# Altium integrated library WCAP-ASLL_rev15a.intlib: 75 symbols (part 1 of 2)
Pins are listed as number, name and electrical type; pins without a type are passive.

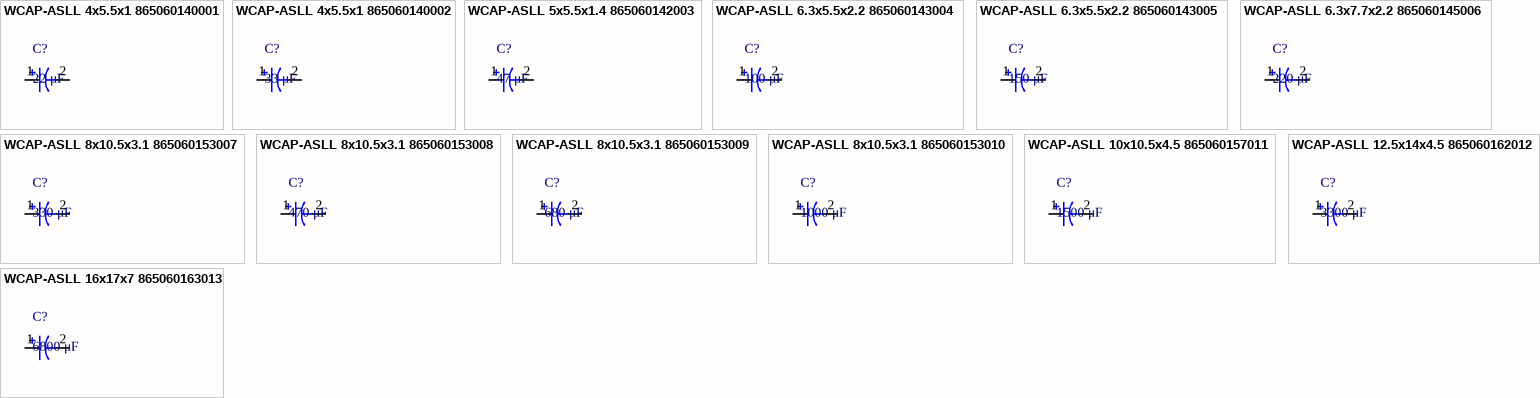
[diagram p0: symbols WCAP-ASLL 4x5.5x1 865060140001 to WCAP-ASLL 16x17x7 865060163013]

## WCAP-ASLL 4x5.5x1 865060140001
designator C?, comment 22 μF
WCAP-ASLL Aluminum Electrolytic Capacitors , 22 μF; + / - 20%; 6,3 V , 4 x 5,5; Manufacturer: Wurth Elektronik; partNo: 865060140001; E-mail: libraries@we-online.com; Characteristics: Aluminum Electrolytic Capacitor;Recommended soldering: Reflow;Operating temperature: –55 °C to +105 °C;Low impedance product series;Load life: 2000–5000 h @ +105 °C; ComponentLink1Description: Manufacturer; ComponentLink1URL: http://www.we-online.com; ComponentLink2Description: Datasheet; ComponentLink2URL: http://katalog.we-online.de/pbs/datasheet/865060140001.pdf; Created by: Karrer Zheng; Created Date: 5/13/2015; Capacitance: 22 μF; Application: Energy storage or high frequency filtering in the low voltage circuit; used as power supply filtering in general switching power supply, DC-DC converter, AC-DC converter, conversion adapter, charger, TV, VCR, DC motor circuit filter, digital audio, digital TV, digital camera, digital video camera, satellite receiver, equipment control panel and etc.
footprint WCAP-ASLL 4x5.5x1
pins: 1, 2

## WCAP-ASLL 4x5.5x1 865060140002
designator C?, comment 33 μF
WCAP-ASLL Aluminum Electrolytic Capacitors , 33 μF; + / - 20%; 6,3 V , 4 x 5,5; Manufacturer: Wurth Elektronik; partNo: 865060140002; E-mail: libraries@we-online.com; Characteristics: Aluminum Electrolytic Capacitor;Recommended soldering: Reflow;Operating temperature: –55 °C to +105 °C;Low impedance product series;Load life: 2000–5000 h @ +105 °C; ComponentLink1Description: Manufacturer; ComponentLink1URL: http://www.we-online.com; ComponentLink2Description: Datasheet; ComponentLink2URL: http://katalog.we-online.de/pbs/datasheet/865060140002.pdf; Created by: Karrer Zheng; Created Date: 5/13/2015; Capacitance: 33 μF; Application: Energy storage or high frequency filtering in the low voltage circuit; used as power supply filtering in general switching power supply, DC-DC converter, AC-DC converter, conversion adapter, charger, TV, VCR, DC motor circuit filter, digital audio, digital TV, digital camera, digital video camera, satellite receiver, equipment control panel and etc.
footprint WCAP-ASLL 4x5.5x1
pins: 1, 2

## WCAP-ASLL 5x5.5x1.4 865060142003
designator C?, comment 47 μF
WCAP-ASLL Aluminum Electrolytic Capacitors , 47 μF; + / - 20%; 6,3 V , 5 x 5,5; Manufacturer: Wurth Elektronik; partNo: 865060142003; E-mail: libraries@we-online.com; Characteristics: Aluminum Electrolytic Capacitor;Recommended soldering: Reflow;Operating temperature: –55 °C to +105 °C;Low impedance product series;Load life: 2000–5000 h @ +105 °C; ComponentLink1Description: Manufacturer; ComponentLink1URL: http://www.we-online.com; ComponentLink2Description: Datasheet; ComponentLink2URL: http://katalog.we-online.de/pbs/datasheet/865060142003.pdf; Created by: Karrer Zheng; Created Date: 5/13/2015; Capacitance: 47 μF; Application: Energy storage or high frequency filtering in the low voltage circuit; used as power supply filtering in general switching power supply, DC-DC converter, AC-DC converter, conversion adapter, charger, TV, VCR, DC motor circuit filter, digital audio, digital TV, digital camera, digital video camera, satellite receiver, equipment control panel and etc.
footprint WCAP-ASLL 5x5.5x1.4
pins: 1, 2

## WCAP-ASLL 6.3x5.5x2.2 865060143004
designator C?, comment 100 μF
WCAP-ASLL Aluminum Electrolytic Capacitors , 100 μF; + / - 20%; 6,3 V , 6,3 x 5,5; Manufacturer: Wurth Elektronik; partNo: 865060143004; E-mail: libraries@we-online.com; Characteristics: Aluminum Electrolytic Capacitor;Recommended soldering: Reflow;Operating temperature: –55 °C to +105 °C;Low impedance product series;Load life: 2000–5000 h @ +105 °C; ComponentLink1Description: Manufacturer; ComponentLink1URL: http://www.we-online.com; ComponentLink2Description: Datasheet; ComponentLink2URL: http://katalog.we-online.de/pbs/datasheet/865060143004.pdf; Created by: Karrer Zheng; Created Date: 5/13/2015; Capacitance: 100 μF; Application: Energy storage or high frequency filtering in the low voltage circuit; used as power supply filtering in general switching power supply, DC-DC converter, AC-DC converter, conversion adapter, charger, TV, VCR, DC motor circuit filter, digital audio, digital TV, digital camera, digital video camera, satellite receiver, equipment control panel and etc.
footprint WCAP-ASLL 6.3x5.5x2.2
pins: 1, 2

## WCAP-ASLL 6.3x5.5x2.2 865060143005
designator C?, comment 150 μF
WCAP-ASLL Aluminum Electrolytic Capacitors , 150 μF; + / - 20%; 6,3 V , 6,3 x 5,5; Manufacturer: Wurth Elektronik; partNo: 865060143005; E-mail: libraries@we-online.com; Characteristics: Aluminum Electrolytic Capacitor;Recommended soldering: Reflow;Operating temperature: –55 °C to +105 °C;Low impedance product series;Load life: 2000–5000 h @ +105 °C; ComponentLink1Description: Manufacturer; ComponentLink1URL: http://www.we-online.com; ComponentLink2Description: Datasheet; ComponentLink2URL: http://katalog.we-online.de/pbs/datasheet/865060143005.pdf; Created by: Karrer Zheng; Created Date: 5/13/2015; Capacitance: 150 μF; Application: Energy storage or high frequency filtering in the low voltage circuit; used as power supply filtering in general switching power supply, DC-DC converter, AC-DC converter, conversion adapter, charger, TV, VCR, DC motor circuit filter, digital audio, digital TV, digital camera, digital video camera, satellite receiver, equipment control panel and etc.
footprint WCAP-ASLL 6.3x5.5x2.2
pins: 1, 2

## WCAP-ASLL 6.3x7.7x2.2 865060145006
designator C?, comment 220 μF
WCAP-ASLL Aluminum Electrolytic Capacitors , 220 μF; + / - 20%; 6,3 V , 6,3 x 7,7; Manufacturer: Wurth Elektronik; partNo: 865060145006; E-mail: libraries@we-online.com; Characteristics: Aluminum Electrolytic Capacitor;Recommended soldering: Reflow;Operating temperature: –55 °C to +105 °C;Low impedance product series;Load life: 2000–5000 h @ +105 °C; ComponentLink1Description: Manufacturer; ComponentLink1URL: http://www.we-online.com; ComponentLink2Description: Datasheet; ComponentLink2URL: http://katalog.we-online.de/pbs/datasheet/865060145006.pdf; Created by: Karrer Zheng; Created Date: 5/13/2015; Capacitance: 220 μF; Application: Energy storage or high frequency filtering in the low voltage circuit; used as power supply filtering in general switching power supply, DC-DC converter, AC-DC converter, conversion adapter, charger, TV, VCR, DC motor circuit filter, digital audio, digital TV, digital camera, digital video camera, satellite receiver, equipment control panel and etc.
footprint WCAP-ASLL 6.3x7.7x2.2
pins: 1, 2

## WCAP-ASLL 8x10.5x3.1 865060153007
designator C?, comment 330 μF
WCAP-ASLL Aluminum Electrolytic Capacitors , 330 μF; + / - 20%; 6,3 V , 8 x 10,5; Manufacturer: Wurth Elektronik; partNo: 865060153007; E-mail: libraries@we-online.com; Characteristics: Aluminum Electrolytic Capacitor;Recommended soldering: Reflow;Operating temperature: –55 °C to +105 °C;Low impedance product series;Load life: 2000–5000 h @ +105 °C; ComponentLink1Description: Manufacturer; ComponentLink1URL: http://www.we-online.com; ComponentLink2Description: Datasheet; ComponentLink2URL: http://katalog.we-online.de/pbs/datasheet/865060153007.pdf; Created by: Karrer Zheng; Created Date: 5/13/2015; Capacitance: 330 μF; Application: Energy storage or high frequency filtering in the low voltage circuit; used as power supply filtering in general switching power supply, DC-DC converter, AC-DC converter, conversion adapter, charger, TV, VCR, DC motor circuit filter, digital audio, digital TV, digital camera, digital video camera, satellite receiver, equipment control panel and etc.
footprint WCAP-ASLL 8x10.5x3.1
pins: 1, 2

## WCAP-ASLL 8x10.5x3.1 865060153008
designator C?, comment 470 μF
WCAP-ASLL Aluminum Electrolytic Capacitors , 470 μF; + / - 20%; 6,3 V , 8 x 10,5; Manufacturer: Wurth Elektronik; partNo: 865060153008; E-mail: libraries@we-online.com; Characteristics: Aluminum Electrolytic Capacitor;Recommended soldering: Reflow;Operating temperature: –55 °C to +105 °C;Low impedance product series;Load life: 2000–5000 h @ +105 °C; ComponentLink1Description: Manufacturer; ComponentLink1URL: http://www.we-online.com; ComponentLink2Description: Datasheet; ComponentLink2URL: http://katalog.we-online.de/pbs/datasheet/865060153008.pdf; Created by: Karrer Zheng; Created Date: 5/13/2015; Capacitance: 470 μF; Application: Energy storage or high frequency filtering in the low voltage circuit; used as power supply filtering in general switching power supply, DC-DC converter, AC-DC converter, conversion adapter, charger, TV, VCR, DC motor circuit filter, digital audio, digital TV, digital camera, digital video camera, satellite receiver, equipment control panel and etc.
footprint WCAP-ASLL 8x10.5x3.1
pins: 1, 2

## WCAP-ASLL 8x10.5x3.1 865060153009
designator C?, comment 680 μF
WCAP-ASLL Aluminum Electrolytic Capacitors , 680 μF; + / - 20%; 6,3 V , 8 x 10,5; Manufacturer: Wurth Elektronik; partNo: 865060153009; E-mail: libraries@we-online.com; Characteristics: Aluminum Electrolytic Capacitor;Recommended soldering: Reflow;Operating temperature: –55 °C to +105 °C;Low impedance product series;Load life: 2000–5000 h @ +105 °C; ComponentLink1Description: Manufacturer; ComponentLink1URL: http://www.we-online.com; ComponentLink2Description: Datasheet; ComponentLink2URL: http://katalog.we-online.de/pbs/datasheet/865060153009.pdf; Created by: Karrer Zheng; Created Date: 5/13/2015; Capacitance: 680 μF; Application: Energy storage or high frequency filtering in the low voltage circuit; used as power supply filtering in general switching power supply, DC-DC converter, AC-DC converter, conversion adapter, charger, TV, VCR, DC motor circuit filter, digital audio, digital TV, digital camera, digital video camera, satellite receiver, equipment control panel and etc.
footprint WCAP-ASLL 8x10.5x3.1
pins: 1, 2

## WCAP-ASLL 8x10.5x3.1 865060153010
designator C?, comment 1000 μF
WCAP-ASLL Aluminum Electrolytic Capacitors , 1000 μF; + / - 20%; 6,3 V , 8 x 10,5; Manufacturer: Wurth Elektronik; partNo: 865060153010; E-mail: libraries@we-online.com; Characteristics: Aluminum Electrolytic Capacitor;Recommended soldering: Reflow;Operating temperature: –55 °C to +105 °C;Low impedance product series;Load life: 2000–5000 h @ +105 °C; ComponentLink1Description: Manufacturer; ComponentLink1URL: http://www.we-online.com; ComponentLink2Description: Datasheet; ComponentLink2URL: http://katalog.we-online.de/pbs/datasheet/865060153010.pdf; Created by: Karrer Zheng; Created Date: 5/13/2015; Capacitance: 1000 μF; Application: Energy storage or high frequency filtering in the low voltage circuit; used as power supply filtering in general switching power supply, DC-DC converter, AC-DC converter, conversion adapter, charger, TV, VCR, DC motor circuit filter, digital audio, digital TV, digital camera, digital video camera, satellite receiver, equipment control panel and etc.
footprint WCAP-ASLL 8x10.5x3.1
pins: 1, 2

## WCAP-ASLL 10x10.5x4.5 865060157011
designator C?, comment 1500 μF
WCAP-ASLL Aluminum Electrolytic Capacitors , 1500 μF; + / - 20%; 6,3 V , 10 x 10,5; Manufacturer: Wurth Elektronik; partNo: 865060157011; E-mail: libraries@we-online.com; Characteristics: Aluminum Electrolytic Capacitor;Recommended soldering: Reflow;Operating temperature: –55 °C to +105 °C;Low impedance product series;Load life: 2000–5000 h @ +105 °C; ComponentLink1Description: Manufacturer; ComponentLink1URL: http://www.we-online.com; ComponentLink2Description: Datasheet; ComponentLink2URL: http://katalog.we-online.de/pbs/datasheet/865060157011.pdf; Created by: Karrer Zheng; Created Date: 5/13/2015; Capacitance: 1500 μF; Application: Energy storage or high frequency filtering in the low voltage circuit; used as power supply filtering in general switching power supply, DC-DC converter, AC-DC converter, conversion adapter, charger, TV, VCR, DC motor circuit filter, digital audio, digital TV, digital camera, digital video camera, satellite receiver, equipment control panel and etc.
footprint WCAP-ASLL 10x10.5x4.5
pins: 1, 2

## WCAP-ASLL 12.5x14x4.5 865060162012
designator C?, comment 3300 μF
WCAP-ASLL Aluminum Electrolytic Capacitors , 3300 μF; + / - 20%; 6,3 V , 12,5 x 14; Manufacturer: Wurth Elektronik; partNo: 865060162012; E-mail: libraries@we-online.com; Characteristics: Aluminum Electrolytic Capacitor;Recommended soldering: Reflow;Operating temperature: –55 °C to +105 °C;Low impedance product series;Load life: 2000–5000 h @ +105 °C; ComponentLink1Description: Manufacturer; ComponentLink1URL: http://www.we-online.com; ComponentLink2Description: Datasheet; ComponentLink2URL: http://katalog.we-online.de/pbs/datasheet/865060162012.pdf; Created by: Karrer Zheng; Created Date: 5/13/2015; Capacitance: 3300 μF; Application: Energy storage or high frequency filtering in the low voltage circuit; used as power supply filtering in general switching power supply, DC-DC converter, AC-DC converter, conversion adapter, charger, TV, VCR, DC motor circuit filter, digital audio, digital TV, digital camera, digital video camera, satellite receiver, equipment control panel and etc.
footprint WCAP-ASLL 12.5x14x4.5
pins: 1, 2

## WCAP-ASLL 16x17x7 865060163013
designator C?, comment 6800 μF
WCAP-ASLL Aluminum Electrolytic Capacitors , 6800 μF; + / - 20%; 6,3 V , 16 x 17; Manufacturer: Wurth Elektronik; partNo: 865060163013; E-mail: libraries@we-online.com; Characteristics: Aluminum Electrolytic Capacitor;Recommended soldering: Reflow;Operating temperature: –55 °C to +105 °C;Low impedance product series;Load life: 2000–5000 h @ +105 °C; ComponentLink1Description: Manufacturer; ComponentLink1URL: http://www.we-online.com; ComponentLink2Description: Datasheet; ComponentLink2URL: http://katalog.we-online.de/pbs/datasheet/865060163013.pdf; Created by: Karrer Zheng; Created Date: 5/13/2015; Capacitance: 6800 μF; Application: Energy storage or high frequency filtering in the low voltage circuit; used as power supply filtering in general switching power supply, DC-DC converter, AC-DC converter, conversion adapter, charger, TV, VCR, DC motor circuit filter, digital audio, digital TV, digital camera, digital video camera, satellite receiver, equipment control panel and etc.
footprint WCAP-ASLL 16x17x7
pins: 1, 2


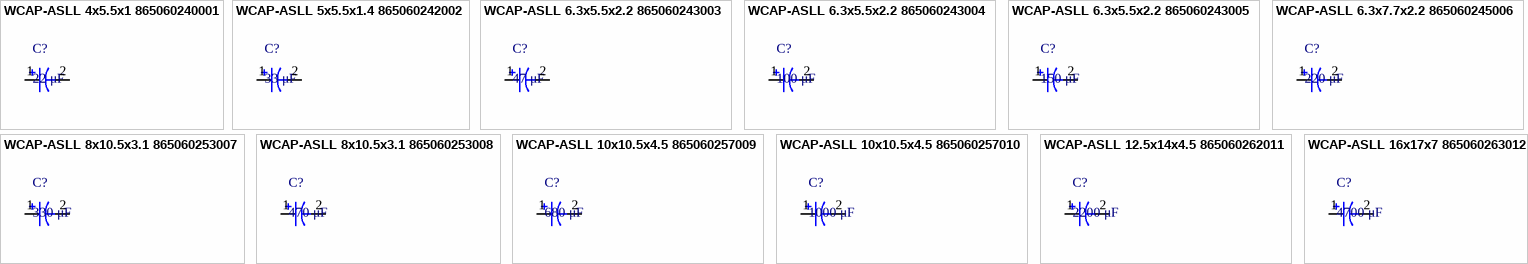
[diagram p1: symbols WCAP-ASLL 4x5.5x1 865060240001 to WCAP-ASLL 16x17x7 865060263012]

## WCAP-ASLL 4x5.5x1 865060240001
designator C?, comment 22 μF
WCAP-ASLL Aluminum Electrolytic Capacitors , 22 μF; + / - 20%; 10 V , 4 x 5,5; Manufacturer: Wurth Elektronik; partNo: 865060240001; E-mail: libraries@we-online.com; Characteristics: Aluminum Electrolytic Capacitor;Recommended soldering: Reflow;Operating temperature: –55 °C to +105 °C;Low impedance product series;Load life: 2000–5000 h @ +105 °C; ComponentLink1Description: Manufacturer; ComponentLink1URL: http://www.we-online.com; ComponentLink2Description: Datasheet; ComponentLink2URL: http://katalog.we-online.de/pbs/datasheet/865060240001.pdf; Created by: Karrer Zheng; Created Date: 5/13/2015; Capacitance: 22 μF; Application: Energy storage or high frequency filtering in the low voltage circuit; used as power supply filtering in general switching power supply, DC-DC converter, AC-DC converter, conversion adapter, charger, TV, VCR, DC motor circuit filter, digital audio, digital TV, digital camera, digital video camera, satellite receiver, equipment control panel and etc.
footprint WCAP-ASLL 4x5.5x1
pins: 1, 2

## WCAP-ASLL 5x5.5x1.4 865060242002
designator C?, comment 33 μF
WCAP-ASLL Aluminum Electrolytic Capacitors , 33 μF; + / - 20%; 10 V , 5 x 5,5; Manufacturer: Wurth Elektronik; partNo: 865060242002; E-mail: libraries@we-online.com; Characteristics: Aluminum Electrolytic Capacitor;Recommended soldering: Reflow;Operating temperature: –55 °C to +105 °C;Low impedance product series;Load life: 2000–5000 h @ +105 °C; ComponentLink1Description: Manufacturer; ComponentLink1URL: http://www.we-online.com; ComponentLink2Description: Datasheet; ComponentLink2URL: http://katalog.we-online.de/pbs/datasheet/865060242002.pdf; Created by: Karrer Zheng; Created Date: 5/13/2015; Capacitance: 33 μF; Application: Energy storage or high frequency filtering in the low voltage circuit; used as power supply filtering in general switching power supply, DC-DC converter, AC-DC converter, conversion adapter, charger, TV, VCR, DC motor circuit filter, digital audio, digital TV, digital camera, digital video camera, satellite receiver, equipment control panel and etc.
footprint WCAP-ASLL 5x5.5x1.4
pins: 1, 2

## WCAP-ASLL 6.3x5.5x2.2 865060243003
designator C?, comment 47 μF
WCAP-ASLL Aluminum Electrolytic Capacitors , 47 μF; + / - 20%; 10 V , 6,3 x 5,5; Manufacturer: Wurth Elektronik; partNo: 865060243003; E-mail: libraries@we-online.com; Characteristics: Aluminum Electrolytic Capacitor;Recommended soldering: Reflow;Operating temperature: –55 °C to +105 °C;Low impedance product series;Load life: 2000–5000 h @ +105 °C; ComponentLink1Description: Manufacturer; ComponentLink1URL: http://www.we-online.com; ComponentLink2Description: Datasheet; ComponentLink2URL: http://katalog.we-online.de/pbs/datasheet/865060243003.pdf; Created by: Karrer Zheng; Created Date: 5/13/2015; Capacitance: 47 μF; Application: Energy storage or high frequency filtering in the low voltage circuit; used as power supply filtering in general switching power supply, DC-DC converter, AC-DC converter, conversion adapter, charger, TV, VCR, DC motor circuit filter, digital audio, digital TV, digital camera, digital video camera, satellite receiver, equipment control panel and etc.
footprint WCAP-ASLL 6.3x5.5x2.2
pins: 1, 2

## WCAP-ASLL 6.3x5.5x2.2 865060243004
designator C?, comment 100 μF
WCAP-ASLL Aluminum Electrolytic Capacitors , 100 μF; + / - 20%; 10 V , 6,3 x 5,5; Manufacturer: Wurth Elektronik; partNo: 865060243004; E-mail: libraries@we-online.com; Characteristics: Aluminum Electrolytic Capacitor;Recommended soldering: Reflow;Operating temperature: –55 °C to +105 °C;Low impedance product series;Load life: 2000–5000 h @ +105 °C; ComponentLink1Description: Manufacturer; ComponentLink1URL: http://www.we-online.com; ComponentLink2Description: Datasheet; ComponentLink2URL: http://katalog.we-online.de/pbs/datasheet/865060243004.pdf; Created by: Karrer Zheng; Created Date: 5/13/2015; Capacitance: 100 μF; Application: Energy storage or high frequency filtering in the low voltage circuit; used as power supply filtering in general switching power supply, DC-DC converter, AC-DC converter, conversion adapter, charger, TV, VCR, DC motor circuit filter, digital audio, digital TV, digital camera, digital video camera, satellite receiver, equipment control panel and etc.
footprint WCAP-ASLL 6.3x5.5x2.2
pins: 1, 2

## WCAP-ASLL 6.3x5.5x2.2 865060243005
designator C?, comment 150 μF
WCAP-ASLL Aluminum Electrolytic Capacitors , 150 μF; + / - 20%; 10 V , 6,3 x 5,5; Manufacturer: Wurth Elektronik; partNo: 865060243005; E-mail: libraries@we-online.com; Characteristics: Aluminum Electrolytic Capacitor;Recommended soldering: Reflow;Operating temperature: –55 °C to +105 °C;Low impedance product series;Load life: 2000–5000 h @ +105 °C; ComponentLink1Description: Manufacturer; ComponentLink1URL: http://www.we-online.com; ComponentLink2Description: Datasheet; ComponentLink2URL: http://katalog.we-online.de/pbs/datasheet/865060243005.pdf; Created by: Karrer Zheng; Created Date: 5/13/2015; Capacitance: 150 μF; Application: Energy storage or high frequency filtering in the low voltage circuit; used as power supply filtering in general switching power supply, DC-DC converter, AC-DC converter, conversion adapter, charger, TV, VCR, DC motor circuit filter, digital audio, digital TV, digital camera, digital video camera, satellite receiver, equipment control panel and etc.
footprint WCAP-ASLL 6.3x5.5x2.2
pins: 1, 2

## WCAP-ASLL 6.3x7.7x2.2 865060245006
designator C?, comment 220 μF
WCAP-ASLL Aluminum Electrolytic Capacitors , 220 μF; + / - 20%; 10 V , 6,3 x 7,7; Manufacturer: Wurth Elektronik; partNo: 865060245006; E-mail: libraries@we-online.com; Characteristics: Aluminum Electrolytic Capacitor;Recommended soldering: Reflow;Operating temperature: –55 °C to +105 °C;Low impedance product series;Load life: 2000–5000 h @ +105 °C; ComponentLink1Description: Manufacturer; ComponentLink1URL: http://www.we-online.com; ComponentLink2Description: Datasheet; ComponentLink2URL: http://katalog.we-online.de/pbs/datasheet/865060245006.pdf; Created by: Karrer Zheng; Created Date: 5/13/2015; Capacitance: 220 μF; Application: Energy storage or high frequency filtering in the low voltage circuit; used as power supply filtering in general switching power supply, DC-DC converter, AC-DC converter, conversion adapter, charger, TV, VCR, DC motor circuit filter, digital audio, digital TV, digital camera, digital video camera, satellite receiver, equipment control panel and etc.
footprint WCAP-ASLL 6.3x7.7x2.2
pins: 1, 2

## WCAP-ASLL 8x10.5x3.1 865060253007
designator C?, comment 330 μF
WCAP-ASLL Aluminum Electrolytic Capacitors , 330 μF; + / - 20%; 10 V , 8 x 10,5; Manufacturer: Wurth Elektronik; partNo: 865060253007; E-mail: libraries@we-online.com; Characteristics: Aluminum Electrolytic Capacitor;Recommended soldering: Reflow;Operating temperature: –55 °C to +105 °C;Low impedance product series;Load life: 2000–5000 h @ +105 °C; ComponentLink1Description: Manufacturer; ComponentLink1URL: http://www.we-online.com; ComponentLink2Description: Datasheet; ComponentLink2URL: http://katalog.we-online.de/pbs/datasheet/865060253007.pdf; Created by: Karrer Zheng; Created Date: 5/13/2015; Capacitance: 330 μF; Application: Energy storage or high frequency filtering in the low voltage circuit; used as power supply filtering in general switching power supply, DC-DC converter, AC-DC converter, conversion adapter, charger, TV, VCR, DC motor circuit filter, digital audio, digital TV, digital camera, digital video camera, satellite receiver, equipment control panel and etc.
footprint WCAP-ASLL 8x10.5x3.1
pins: 1, 2

## WCAP-ASLL 8x10.5x3.1 865060253008
designator C?, comment 470 μF
WCAP-ASLL Aluminum Electrolytic Capacitors , 470 μF; + / - 20%; 10 V , 8 x 10,5; Manufacturer: Wurth Elektronik; partNo: 865060253008; E-mail: libraries@we-online.com; Characteristics: Aluminum Electrolytic Capacitor;Recommended soldering: Reflow;Operating temperature: –55 °C to +105 °C;Low impedance product series;Load life: 2000–5000 h @ +105 °C; ComponentLink1Description: Manufacturer; ComponentLink1URL: http://www.we-online.com; ComponentLink2Description: Datasheet; ComponentLink2URL: http://katalog.we-online.de/pbs/datasheet/865060253008.pdf; Created by: Karrer Zheng; Created Date: 5/13/2015; Capacitance: 470 μF; Application: Energy storage or high frequency filtering in the low voltage circuit; used as power supply filtering in general switching power supply, DC-DC converter, AC-DC converter, conversion adapter, charger, TV, VCR, DC motor circuit filter, digital audio, digital TV, digital camera, digital video camera, satellite receiver, equipment control panel and etc.
footprint WCAP-ASLL 8x10.5x3.1
pins: 1, 2

## WCAP-ASLL 10x10.5x4.5 865060257009
designator C?, comment 680 μF
WCAP-ASLL Aluminum Electrolytic Capacitors , 680 μF; + / - 20%; 10 V , 10 x 10,5; Manufacturer: Wurth Elektronik; partNo: 865060257009; E-mail: libraries@we-online.com; Characteristics: Aluminum Electrolytic Capacitor;Recommended soldering: Reflow;Operating temperature: –55 °C to +105 °C;Low impedance product series;Load life: 2000–5000 h @ +105 °C; ComponentLink1Description: Manufacturer; ComponentLink1URL: http://www.we-online.com; ComponentLink2Description: Datasheet; ComponentLink2URL: http://katalog.we-online.de/pbs/datasheet/865060257009.pdf; Created by: Karrer Zheng; Created Date: 5/13/2015; Capacitance: 680 μF; Application: Energy storage or high frequency filtering in the low voltage circuit; used as power supply filtering in general switching power supply, DC-DC converter, AC-DC converter, conversion adapter, charger, TV, VCR, DC motor circuit filter, digital audio, digital TV, digital camera, digital video camera, satellite receiver, equipment control panel and etc.
footprint WCAP-ASLL 10x10.5x4.5
pins: 1, 2

## WCAP-ASLL 10x10.5x4.5 865060257010
designator C?, comment 1000 μF
WCAP-ASLL Aluminum Electrolytic Capacitors , 1000 μF; + / - 20%; 10 V , 10 x 10,5; Manufacturer: Wurth Elektronik; partNo: 865060257010; E-mail: libraries@we-online.com; Characteristics: Aluminum Electrolytic Capacitor;Recommended soldering: Reflow;Operating temperature: –55 °C to +105 °C;Low impedance product series;Load life: 2000–5000 h @ +105 °C; ComponentLink1Description: Manufacturer; ComponentLink1URL: http://www.we-online.com; ComponentLink2Description: Datasheet; ComponentLink2URL: http://katalog.we-online.de/pbs/datasheet/865060257010.pdf; Created by: Karrer Zheng; Created Date: 5/13/2015; Capacitance: 1000 μF; Application: Energy storage or high frequency filtering in the low voltage circuit; used as power supply filtering in general switching power supply, DC-DC converter, AC-DC converter, conversion adapter, charger, TV, VCR, DC motor circuit filter, digital audio, digital TV, digital camera, digital video camera, satellite receiver, equipment control panel and etc.
footprint WCAP-ASLL 10x10.5x4.5
pins: 1, 2

## WCAP-ASLL 12.5x14x4.5 865060262011
designator C?, comment 2200 μF
WCAP-ASLL Aluminum Electrolytic Capacitors , 2200 μF; + / - 20%; 10 V , 12,5 x 14; Manufacturer: Wurth Elektronik; partNo: 865060262011; E-mail: libraries@we-online.com; Characteristics: Aluminum Electrolytic Capacitor;Recommended soldering: Reflow;Operating temperature: –55 °C to +105 °C;Low impedance product series;Load life: 2000–5000 h @ +105 °C; ComponentLink1Description: Manufacturer; ComponentLink1URL: http://www.we-online.com; ComponentLink2Description: Datasheet; ComponentLink2URL: http://katalog.we-online.de/pbs/datasheet/865060262011.pdf; Created by: Karrer Zheng; Created Date: 5/13/2015; Capacitance: 2200 μF; Application: Energy storage or high frequency filtering in the low voltage circuit; used as power supply filtering in general switching power supply, DC-DC converter, AC-DC converter, conversion adapter, charger, TV, VCR, DC motor circuit filter, digital audio, digital TV, digital camera, digital video camera, satellite receiver, equipment control panel and etc.
footprint WCAP-ASLL 12.5x14x4.5
pins: 1, 2

## WCAP-ASLL 16x17x7 865060263012
designator C?, comment 4700 μF
WCAP-ASLL Aluminum Electrolytic Capacitors , 4700 μF; + / - 20%; 10 V , 16 x 17; Manufacturer: Wurth Elektronik; partNo: 865060263012; E-mail: libraries@we-online.com; Characteristics: Aluminum Electrolytic Capacitor;Recommended soldering: Reflow;Operating temperature: –55 °C to +105 °C;Low impedance product series;Load life: 2000–5000 h @ +105 °C; ComponentLink1Description: Manufacturer; ComponentLink1URL: http://www.we-online.com; ComponentLink2Description: Datasheet; ComponentLink2URL: http://katalog.we-online.de/pbs/datasheet/865060263012.pdf; Created by: Karrer Zheng; Created Date: 5/13/2015; Capacitance: 4700 μF; Application: Energy storage or high frequency filtering in the low voltage circuit; used as power supply filtering in general switching power supply, DC-DC converter, AC-DC converter, conversion adapter, charger, TV, VCR, DC motor circuit filter, digital audio, digital TV, digital camera, digital video camera, satellite receiver, equipment control panel and etc.
footprint WCAP-ASLL 16x17x7
pins: 1, 2


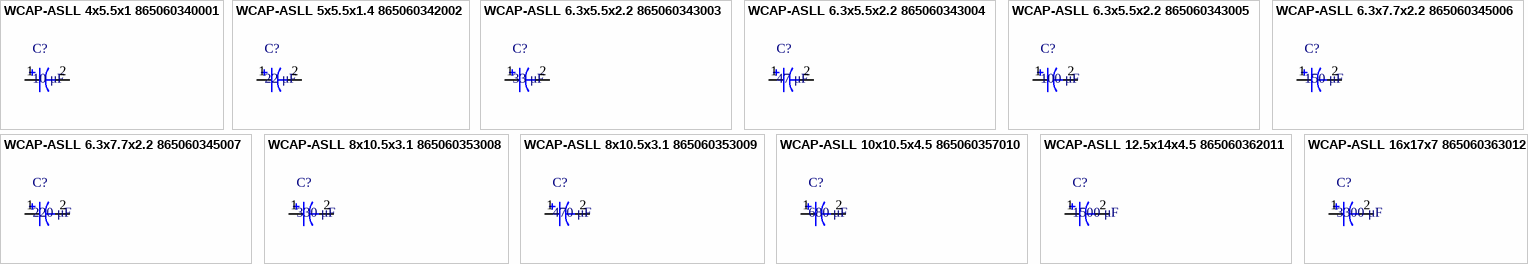
[diagram p2: symbols WCAP-ASLL 4x5.5x1 865060340001 to WCAP-ASLL 16x17x7 865060363012]

## WCAP-ASLL 4x5.5x1 865060340001
designator C?, comment 10 μF
WCAP-ASLL Aluminum Electrolytic Capacitors , 10 μF; + / - 20%; 16 V , 4 x 5,5; Manufacturer: Wurth Elektronik; partNo: 865060340001; E-mail: libraries@we-online.com; Characteristics: Aluminum Electrolytic Capacitor;Recommended soldering: Reflow;Operating temperature: –55 °C to +105 °C;Low impedance product series;Load life: 2000–5000 h @ +105 °C; ComponentLink1Description: Manufacturer; ComponentLink1URL: http://www.we-online.com; ComponentLink2Description: Datasheet; ComponentLink2URL: http://katalog.we-online.de/pbs/datasheet/865060340001.pdf; Created by: Karrer Zheng; Created Date: 5/13/2015; Capacitance: 10 μF; Application: Energy storage or high frequency filtering in the low voltage circuit; used as power supply filtering in general switching power supply, DC-DC converter, AC-DC converter, conversion adapter, charger, TV, VCR, DC motor circuit filter, digital audio, digital TV, digital camera, digital video camera, satellite receiver, equipment control panel and etc.
footprint WCAP-ASLL 4x5.5x1
pins: 1, 2

## WCAP-ASLL 5x5.5x1.4 865060342002
designator C?, comment 22 μF
WCAP-ASLL Aluminum Electrolytic Capacitors , 22 μF; + / - 20%; 16 V , 5 x 5,5; Manufacturer: Wurth Elektronik; partNo: 865060342002; E-mail: libraries@we-online.com; Characteristics: Aluminum Electrolytic Capacitor;Recommended soldering: Reflow;Operating temperature: –55 °C to +105 °C;Low impedance product series;Load life: 2000–5000 h @ +105 °C; ComponentLink1Description: Manufacturer; ComponentLink1URL: http://www.we-online.com; ComponentLink2Description: Datasheet; ComponentLink2URL: http://katalog.we-online.de/pbs/datasheet/865060342002.pdf; Created by: Karrer Zheng; Created Date: 5/13/2015; Capacitance: 22 μF; Application: Energy storage or high frequency filtering in the low voltage circuit; used as power supply filtering in general switching power supply, DC-DC converter, AC-DC converter, conversion adapter, charger, TV, VCR, DC motor circuit filter, digital audio, digital TV, digital camera, digital video camera, satellite receiver, equipment control panel and etc.
footprint WCAP-ASLL 5x5.5x1.4
pins: 1, 2

## WCAP-ASLL 6.3x5.5x2.2 865060343003
designator C?, comment 33 μF
WCAP-ASLL Aluminum Electrolytic Capacitors , 33 μF; + / - 20%; 16 V , 6,3 x 5,5; Manufacturer: Wurth Elektronik; partNo: 865060343003; E-mail: libraries@we-online.com; Characteristics: Aluminum Electrolytic Capacitor;Recommended soldering: Reflow;Operating temperature: –55 °C to +105 °C;Low impedance product series;Load life: 2000–5000 h @ +105 °C; ComponentLink1Description: Manufacturer; ComponentLink1URL: http://www.we-online.com; ComponentLink2Description: Datasheet; ComponentLink2URL: http://katalog.we-online.de/pbs/datasheet/865060343003.pdf; Created by: Karrer Zheng; Created Date: 5/13/2015; Capacitance: 33 μF; Application: Energy storage or high frequency filtering in the low voltage circuit; used as power supply filtering in general switching power supply, DC-DC converter, AC-DC converter, conversion adapter, charger, TV, VCR, DC motor circuit filter, digital audio, digital TV, digital camera, digital video camera, satellite receiver, equipment control panel and etc.
footprint WCAP-ASLL 6.3x5.5x2.2
pins: 1, 2

## WCAP-ASLL 6.3x5.5x2.2 865060343004
designator C?, comment 47 μF
WCAP-ASLL Aluminum Electrolytic Capacitors , 47 μF; + / - 20%; 16 V , 6,3 x 5,5; Manufacturer: Wurth Elektronik; partNo: 865060343004; E-mail: libraries@we-online.com; Characteristics: Aluminum Electrolytic Capacitor;Recommended soldering: Reflow;Operating temperature: –55 °C to +105 °C;Low impedance product series;Load life: 2000–5000 h @ +105 °C; ComponentLink1Description: Manufacturer; ComponentLink1URL: http://www.we-online.com; ComponentLink2Description: Datasheet; ComponentLink2URL: http://katalog.we-online.de/pbs/datasheet/865060343004.pdf; Created by: Karrer Zheng; Created Date: 5/13/2015; Capacitance: 47 μF; Application: Energy storage or high frequency filtering in the low voltage circuit; used as power supply filtering in general switching power supply, DC-DC converter, AC-DC converter, conversion adapter, charger, TV, VCR, DC motor circuit filter, digital audio, digital TV, digital camera, digital video camera, satellite receiver, equipment control panel and etc.
footprint WCAP-ASLL 6.3x5.5x2.2
pins: 1, 2

## WCAP-ASLL 6.3x5.5x2.2 865060343005
designator C?, comment 100 μF
WCAP-ASLL Aluminum Electrolytic Capacitors , 100 μF; + / - 20%; 16 V , 6,3 x 5,5; Manufacturer: Wurth Elektronik; partNo: 865060343005; E-mail: libraries@we-online.com; Characteristics: Aluminum Electrolytic Capacitor;Recommended soldering: Reflow;Operating temperature: –55 °C to +105 °C;Low impedance product series;Load life: 2000–5000 h @ +105 °C; ComponentLink1Description: Manufacturer; ComponentLink1URL: http://www.we-online.com; ComponentLink2Description: Datasheet; ComponentLink2URL: http://katalog.we-online.de/pbs/datasheet/865060343005.pdf; Created by: Karrer Zheng; Created Date: 5/13/2015; Capacitance: 100 μF; Application: Energy storage or high frequency filtering in the low voltage circuit; used as power supply filtering in general switching power supply, DC-DC converter, AC-DC converter, conversion adapter, charger, TV, VCR, DC motor circuit filter, digital audio, digital TV, digital camera, digital video camera, satellite receiver, equipment control panel and etc.
footprint WCAP-ASLL 6.3x5.5x2.2
pins: 1, 2

## WCAP-ASLL 6.3x7.7x2.2 865060345006
designator C?, comment 150 μF
WCAP-ASLL Aluminum Electrolytic Capacitors , 150 μF; + / - 20%; 16 V , 6,3 x 7,7; Manufacturer: Wurth Elektronik; partNo: 865060345006; E-mail: libraries@we-online.com; Characteristics: Aluminum Electrolytic Capacitor;Recommended soldering: Reflow;Operating temperature: –55 °C to +105 °C;Low impedance product series;Load life: 2000–5000 h @ +105 °C; ComponentLink1Description: Manufacturer; ComponentLink1URL: http://www.we-online.com; ComponentLink2Description: Datasheet; ComponentLink2URL: http://katalog.we-online.de/pbs/datasheet/865060345006.pdf; Created by: Karrer Zheng; Created Date: 5/13/2015; Capacitance: 150 μF; Application: Energy storage or high frequency filtering in the low voltage circuit; used as power supply filtering in general switching power supply, DC-DC converter, AC-DC converter, conversion adapter, charger, TV, VCR, DC motor circuit filter, digital audio, digital TV, digital camera, digital video camera, satellite receiver, equipment control panel and etc.
footprint WCAP-ASLL 6.3x7.7x2.2
pins: 1, 2

## WCAP-ASLL 6.3x7.7x2.2 865060345007
designator C?, comment 220 μF
WCAP-ASLL Aluminum Electrolytic Capacitors , 220 μF; + / - 20%; 16 V , 6,3 x 7,7; Manufacturer: Wurth Elektronik; partNo: 865060345007; E-mail: libraries@we-online.com; Characteristics: Aluminum Electrolytic Capacitor;Recommended soldering: Reflow;Operating temperature: –55 °C to +105 °C;Low impedance product series;Load life: 2000–5000 h @ +105 °C; ComponentLink1Description: Manufacturer; ComponentLink1URL: http://www.we-online.com; ComponentLink2Description: Datasheet; ComponentLink2URL: http://katalog.we-online.de/pbs/datasheet/865060345007.pdf; Created by: Karrer Zheng; Created Date: 5/13/2015; Capacitance: 220 μF; Application: Energy storage or high frequency filtering in the low voltage circuit; used as power supply filtering in general switching power supply, DC-DC converter, AC-DC converter, conversion adapter, charger, TV, VCR, DC motor circuit filter, digital audio, digital TV, digital camera, digital video camera, satellite receiver, equipment control panel and etc.
footprint WCAP-ASLL 6.3x7.7x2.2
pins: 1, 2

## WCAP-ASLL 8x10.5x3.1 865060353008
designator C?, comment 330 μF
WCAP-ASLL Aluminum Electrolytic Capacitors , 330 μF; + / - 20%; 16 V , 8 x 10,5; Manufacturer: Wurth Elektronik; partNo: 865060353008; E-mail: libraries@we-online.com; Characteristics: Aluminum Electrolytic Capacitor;Recommended soldering: Reflow;Operating temperature: –55 °C to +105 °C;Low impedance product series;Load life: 2000–5000 h @ +105 °C; ComponentLink1Description: Manufacturer; ComponentLink1URL: http://www.we-online.com; ComponentLink2Description: Datasheet; ComponentLink2URL: http://katalog.we-online.de/pbs/datasheet/865060353008.pdf; Created by: Karrer Zheng; Created Date: 5/13/2015; Capacitance: 330 μF; Application: Energy storage or high frequency filtering in the low voltage circuit; used as power supply filtering in general switching power supply, DC-DC converter, AC-DC converter, conversion adapter, charger, TV, VCR, DC motor circuit filter, digital audio, digital TV, digital camera, digital video camera, satellite receiver, equipment control panel and etc.
footprint WCAP-ASLL 8x10.5x3.1
pins: 1, 2

## WCAP-ASLL 8x10.5x3.1 865060353009
designator C?, comment 470 μF
WCAP-ASLL Aluminum Electrolytic Capacitors , 470 μF; + / - 20%; 16 V , 8 x 10,5; Manufacturer: Wurth Elektronik; partNo: 865060353009; E-mail: libraries@we-online.com; Characteristics: Aluminum Electrolytic Capacitor;Recommended soldering: Reflow;Operating temperature: –55 °C to +105 °C;Low impedance product series;Load life: 2000–5000 h @ +105 °C; ComponentLink1Description: Manufacturer; ComponentLink1URL: http://www.we-online.com; ComponentLink2Description: Datasheet; ComponentLink2URL: http://katalog.we-online.de/pbs/datasheet/865060353009.pdf; Created by: Karrer Zheng; Created Date: 5/13/2015; Capacitance: 470 μF; Application: Energy storage or high frequency filtering in the low voltage circuit; used as power supply filtering in general switching power supply, DC-DC converter, AC-DC converter, conversion adapter, charger, TV, VCR, DC motor circuit filter, digital audio, digital TV, digital camera, digital video camera, satellite receiver, equipment control panel and etc.
footprint WCAP-ASLL 8x10.5x3.1
pins: 1, 2

## WCAP-ASLL 10x10.5x4.5 865060357010
designator C?, comment 680 μF
WCAP-ASLL Aluminum Electrolytic Capacitors , 680 μF; + / - 20%; 16 V , 10 x 10,5; Manufacturer: Wurth Elektronik; partNo: 865060357010; E-mail: libraries@we-online.com; Characteristics: Aluminum Electrolytic Capacitor;Recommended soldering: Reflow;Operating temperature: –55 °C to +105 °C;Low impedance product series;Load life: 2000–5000 h @ +105 °C; ComponentLink1Description: Manufacturer; ComponentLink1URL: http://www.we-online.com; ComponentLink2Description: Datasheet; ComponentLink2URL: http://katalog.we-online.de/pbs/datasheet/865060357010.pdf; Created by: Karrer Zheng; Created Date: 5/13/2015; Capacitance: 680 μF; Application: Energy storage or high frequency filtering in the low voltage circuit; used as power supply filtering in general switching power supply, DC-DC converter, AC-DC converter, conversion adapter, charger, TV, VCR, DC motor circuit filter, digital audio, digital TV, digital camera, digital video camera, satellite receiver, equipment control panel and etc.
footprint WCAP-ASLL 10x10.5x4.5
pins: 1, 2

## WCAP-ASLL 12.5x14x4.5 865060362011
designator C?, comment 1500 μF
WCAP-ASLL Aluminum Electrolytic Capacitors , 1500 μF; + / - 20%; 16 V , 12,5 x 14; Manufacturer: Wurth Elektronik; partNo: 865060362011; E-mail: libraries@we-online.com; Characteristics: Aluminum Electrolytic Capacitor;Recommended soldering: Reflow;Operating temperature: –55 °C to +105 °C;Low impedance product series;Load life: 2000–5000 h @ +105 °C; ComponentLink1Description: Manufacturer; ComponentLink1URL: http://www.we-online.com; ComponentLink2Description: Datasheet; ComponentLink2URL: http://katalog.we-online.de/pbs/datasheet/865060362011.pdf; Created by: Karrer Zheng; Created Date: 5/13/2015; Capacitance: 1500 μF; Application: Energy storage or high frequency filtering in the low voltage circuit; used as power supply filtering in general switching power supply, DC-DC converter, AC-DC converter, conversion adapter, charger, TV, VCR, DC motor circuit filter, digital audio, digital TV, digital camera, digital video camera, satellite receiver, equipment control panel and etc.
footprint WCAP-ASLL 12.5x14x4.5
pins: 1, 2

## WCAP-ASLL 16x17x7 865060363012
designator C?, comment 3300 μF
WCAP-ASLL Aluminum Electrolytic Capacitors , 3300 μF; + / - 20%; 16 V , 16 x 17; Manufacturer: Wurth Elektronik; partNo: 865060363012; E-mail: libraries@we-online.com; Characteristics: Aluminum Electrolytic Capacitor;Recommended soldering: Reflow;Operating temperature: –55 °C to +105 °C;Low impedance product series;Load life: 2000–5000 h @ +105 °C; ComponentLink1Description: Manufacturer; ComponentLink1URL: http://www.we-online.com; ComponentLink2Description: Datasheet; ComponentLink2URL: http://katalog.we-online.de/pbs/datasheet/865060363012.pdf; Created by: Karrer Zheng; Created Date: 5/13/2015; Capacitance: 3300 μF; Application: Energy storage or high frequency filtering in the low voltage circuit; used as power supply filtering in general switching power supply, DC-DC converter, AC-DC converter, conversion adapter, charger, TV, VCR, DC motor circuit filter, digital audio, digital TV, digital camera, digital video camera, satellite receiver, equipment control panel and etc.
footprint WCAP-ASLL 16x17x7
pins: 1, 2


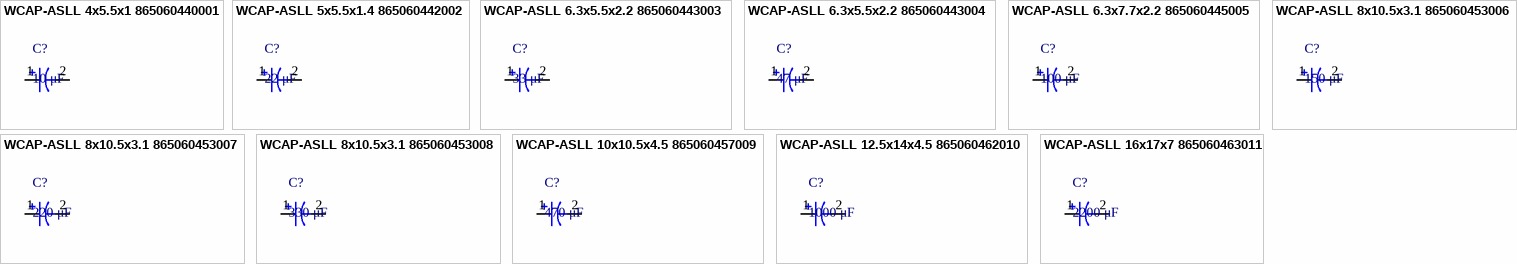
[diagram p3: symbols WCAP-ASLL 4x5.5x1 865060440001 to WCAP-ASLL 16x17x7 865060463011]

## WCAP-ASLL 4x5.5x1 865060440001
designator C?, comment 10 μF
WCAP-ASLL Aluminum Electrolytic Capacitors , 10 μF; + / - 20%; 25 V , 4 x 5,5; Manufacturer: Wurth Elektronik; partNo: 865060440001; E-mail: libraries@we-online.com; Characteristics: Aluminum Electrolytic Capacitor;Recommended soldering: Reflow;Operating temperature: –55 °C to +105 °C;Low impedance product series;Load life: 2000–5000 h @ +105 °C; ComponentLink1Description: Manufacturer; ComponentLink1URL: http://www.we-online.com; ComponentLink2Description: Datasheet; ComponentLink2URL: http://katalog.we-online.de/pbs/datasheet/865060440001.pdf; Created by: Karrer Zheng; Created Date: 5/13/2015; Capacitance: 10 μF; Application: Energy storage or high frequency filtering in the low voltage circuit; used as power supply filtering in general switching power supply, DC-DC converter, AC-DC converter, conversion adapter, charger, TV, VCR, DC motor circuit filter, digital audio, digital TV, digital camera, digital video camera, satellite receiver, equipment control panel and etc.
footprint WCAP-ASLL 4x5.5x1
pins: 1, 2

## WCAP-ASLL 5x5.5x1.4 865060442002
designator C?, comment 22 μF
WCAP-ASLL Aluminum Electrolytic Capacitors , 22 μF; + / - 20%; 25 V , 5 x 5,5; Manufacturer: Wurth Elektronik; partNo: 865060442002; E-mail: libraries@we-online.com; Characteristics: Aluminum Electrolytic Capacitor;Recommended soldering: Reflow;Operating temperature: –55 °C to +105 °C;Low impedance product series;Load life: 2000–5000 h @ +105 °C; ComponentLink1Description: Manufacturer; ComponentLink1URL: http://www.we-online.com; ComponentLink2Description: Datasheet; ComponentLink2URL: http://katalog.we-online.de/pbs/datasheet/865060442002.pdf; Created by: Karrer Zheng; Created Date: 5/13/2015; Capacitance: 22 μF; Application: Energy storage or high frequency filtering in the low voltage circuit; used as power supply filtering in general switching power supply, DC-DC converter, AC-DC converter, conversion adapter, charger, TV, VCR, DC motor circuit filter, digital audio, digital TV, digital camera, digital video camera, satellite receiver, equipment control panel and etc.
footprint WCAP-ASLL 5x5.5x1.4
pins: 1, 2

## WCAP-ASLL 6.3x5.5x2.2 865060443003
designator C?, comment 33 μF
WCAP-ASLL Aluminum Electrolytic Capacitors , 33 μF; + / - 20%; 25 V , 6,3 x 5,5; Manufacturer: Wurth Elektronik; partNo: 865060443003; E-mail: libraries@we-online.com; Characteristics: Aluminum Electrolytic Capacitor;Recommended soldering: Reflow;Operating temperature: –55 °C to +105 °C;Low impedance product series;Load life: 2000–5000 h @ +105 °C; ComponentLink1Description: Manufacturer; ComponentLink1URL: http://www.we-online.com; ComponentLink2Description: Datasheet; ComponentLink2URL: http://katalog.we-online.de/pbs/datasheet/865060443003.pdf; Created by: Karrer Zheng; Created Date: 5/13/2015; Capacitance: 33 μF; Application: Energy storage or high frequency filtering in the low voltage circuit; used as power supply filtering in general switching power supply, DC-DC converter, AC-DC converter, conversion adapter, charger, TV, VCR, DC motor circuit filter, digital audio, digital TV, digital camera, digital video camera, satellite receiver, equipment control panel and etc.
footprint WCAP-ASLL 6.3x5.5x2.2
pins: 1, 2

## WCAP-ASLL 6.3x5.5x2.2 865060443004
designator C?, comment 47 μF
WCAP-ASLL Aluminum Electrolytic Capacitors , 47 μF; + / - 20%; 25 V , 6,3 x 5,5; Manufacturer: Wurth Elektronik; partNo: 865060443004; E-mail: libraries@we-online.com; Characteristics: Aluminum Electrolytic Capacitor;Recommended soldering: Reflow;Operating temperature: –55 °C to +105 °C;Low impedance product series;Load life: 2000–5000 h @ +105 °C; ComponentLink1Description: Manufacturer; ComponentLink1URL: http://www.we-online.com; ComponentLink2Description: Datasheet; ComponentLink2URL: http://katalog.we-online.de/pbs/datasheet/865060443004.pdf; Created by: Karrer Zheng; Created Date: 5/13/2015; Capacitance: 47 μF; Application: Energy storage or high frequency filtering in the low voltage circuit; used as power supply filtering in general switching power supply, DC-DC converter, AC-DC converter, conversion adapter, charger, TV, VCR, DC motor circuit filter, digital audio, digital TV, digital camera, digital video camera, satellite receiver, equipment control panel and etc.
footprint WCAP-ASLL 6.3x5.5x2.2
pins: 1, 2

## WCAP-ASLL 6.3x7.7x2.2 865060445005
designator C?, comment 100 μF
WCAP-ASLL Aluminum Electrolytic Capacitors , 100 μF; + / - 20%; 25 V , 6,3 x 7,7; Manufacturer: Wurth Elektronik; partNo: 865060445005; E-mail: libraries@we-online.com; Characteristics: Aluminum Electrolytic Capacitor;Recommended soldering: Reflow;Operating temperature: –55 °C to +105 °C;Low impedance product series;Load life: 2000–5000 h @ +105 °C; ComponentLink1Description: Manufacturer; ComponentLink1URL: http://www.we-online.com; ComponentLink2Description: Datasheet; ComponentLink2URL: http://katalog.we-online.de/pbs/datasheet/865060445005.pdf; Created by: Karrer Zheng; Created Date: 5/13/2015; Capacitance: 100 μF; Application: Energy storage or high frequency filtering in the low voltage circuit; used as power supply filtering in general switching power supply, DC-DC converter, AC-DC converter, conversion adapter, charger, TV, VCR, DC motor circuit filter, digital audio, digital TV, digital camera, digital video camera, satellite receiver, equipment control panel and etc.
footprint WCAP-ASLL 6.3x7.7x2.2
pins: 1, 2

## WCAP-ASLL 8x10.5x3.1 865060453006
designator C?, comment 150 μF
WCAP-ASLL Aluminum Electrolytic Capacitors , 150 μF; + / - 20%; 25 V , 8 x 10,5; Manufacturer: Wurth Elektronik; partNo: 865060453006; E-mail: libraries@we-online.com; Characteristics: Aluminum Electrolytic Capacitor;Recommended soldering: Reflow;Operating temperature: –55 °C to +105 °C;Low impedance product series;Load life: 2000–5000 h @ +105 °C; ComponentLink1Description: Manufacturer; ComponentLink1URL: http://www.we-online.com; ComponentLink2Description: Datasheet; ComponentLink2URL: http://katalog.we-online.de/pbs/datasheet/865060453006.pdf; Created by: Karrer Zheng; Created Date: 5/13/2015; Capacitance: 150 μF; Application: Energy storage or high frequency filtering in the low voltage circuit; used as power supply filtering in general switching power supply, DC-DC converter, AC-DC converter, conversion adapter, charger, TV, VCR, DC motor circuit filter, digital audio, digital TV, digital camera, digital video camera, satellite receiver, equipment control panel and etc.
footprint WCAP-ASLL 8x10.5x3.1
pins: 1, 2

## WCAP-ASLL 8x10.5x3.1 865060453007
designator C?, comment 220 μF
WCAP-ASLL Aluminum Electrolytic Capacitors , 220 μF; + / - 20%; 25 V , 8 x 10,5; Manufacturer: Wurth Elektronik; partNo: 865060453007; E-mail: libraries@we-online.com; Characteristics: Aluminum Electrolytic Capacitor;Recommended soldering: Reflow;Operating temperature: –55 °C to +105 °C;Low impedance product series;Load life: 2000–5000 h @ +105 °C; ComponentLink1Description: Manufacturer; ComponentLink1URL: http://www.we-online.com; ComponentLink2Description: Datasheet; ComponentLink2URL: http://katalog.we-online.de/pbs/datasheet/865060453007.pdf; Created by: Karrer Zheng; Created Date: 5/13/2015; Capacitance: 220 μF; Application: Energy storage or high frequency filtering in the low voltage circuit; used as power supply filtering in general switching power supply, DC-DC converter, AC-DC converter, conversion adapter, charger, TV, VCR, DC motor circuit filter, digital audio, digital TV, digital camera, digital video camera, satellite receiver, equipment control panel and etc.
footprint WCAP-ASLL 8x10.5x3.1
pins: 1, 2